# Altium footprint library WB_CHIP.PcbLib: 25 footprints (part 3 of 3)
Each footprint in its own frame and in the unit in brackets; x right, y up, seen from the top. Pads: shape width x height; smd on the part's side, far side on the other; paste and mask are expansions set on the pad; w line width, h text height; cw(c..) or ccw(c..) is an arc to the next point about the centre after c.
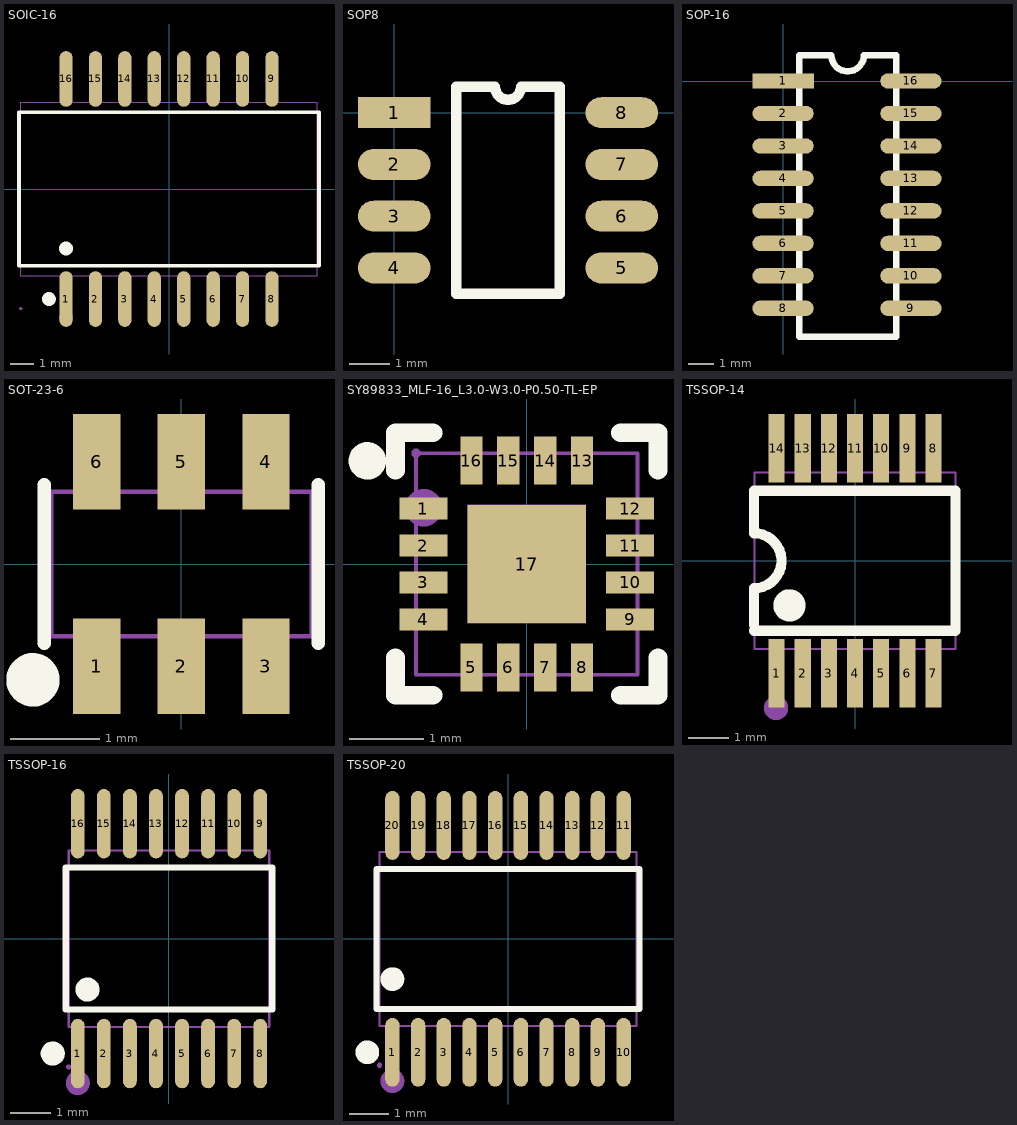
[diagram p2: the footprints below, top view; thin cyan lines are the x and y axes]

## SOIC-16 [mil]
pads (16):
  oval 22.6x94.51 smd: 1(-175,-187.02) 2(-125,-187.02) 3(-75,-187.02) 4(-25,-187.02) 5(25,-187.02) 6(75,-187.02) 7(125,-187.02) 8(175,-187.02) 9(175,187.02) 10(125,187.02) 11(75,187.02) 12(25,187.02) 13(-25,187.02) 14(-75,187.02) 15(-125,187.02) 16(-175,187.02)
Top Overlay:
  circle w11.81: c-204.11,-187.02 r5.91
  circle w11.81: c-175,-101.14 r5.91
  lines w6: -254.97,-130.76 254.97,-130.76 254.97,130.76 -254.97,130.76 -254.97,-130.76
Mechanical 6:
  circle w11.81: c-175,-219 r5.91
Mechanical 15:
  drawing of 37 lines, arcs and shapes, not listed

## SOP8 [mil]
pads (8):
  rect 70x30 smd: 1(0,0)
  oval 70x30 smd: 2(0,-50) 3(0,-100) 4(0,-150) 5(220,-150) 6(220,-100) 7(220,-50) 8(220,0)
Top Overlay:
  lines w10: 60,-175 160,-175 160,25 122.5,25 cw(c110,25) 97.5,25 60,25 60,-175

## SOP-16 [mm]
pads (16):
  rect 2.4x0.6 smd: 1(-0.009,0.008)
  oval 2.4x0.6 smd: 2(-0.009,-1.262) 3(-0.009,-2.532) 4(-0.009,-3.802) 5(-0.009,-5.072) 6(-0.009,-6.342) 7(-0.009,-7.612) 8(-0.009,-8.882) 9(4.991,-8.882) 10(4.991,-7.612) 11(4.991,-6.342) 12(4.991,-5.072) 13(4.991,-3.802) 14(4.991,-2.532) 15(4.991,-1.262) 16(4.991,0.008)
Top Overlay:
  lines w0.254: 0.626,-9.985 4.41,-9.985 4.41,1.015 3.151,1.015 cw(c2.516,1.015) 1.881,1.015 0.626,1.015 0.626,-9.985

## SOT-23-6 [mil]
pads (6):
  rect 20.95x42.2 smd: 1(-37.4,-45.24) 2(0,-45.24) 3(37.4,-45.24) 4(37.4,45.24) 5(0,45.24) 6(-37.4,45.24)
Top Overlay:
  circle w11.81: c-65.68,-51.24 r5.91
  lines w6: -60.6,-35.01 -60.6,35.01 ; 60.6,-35.01 60.6,35.01
Mechanical 15:
  region: -45.87,36.81 -28.94,36.81 -28.94,31.61 -45.87,31.61
  region: -45.87,36.42 -28.94,36.42 -28.94,55.12 -45.87,55.12
  region: -8.46,36.81 8.46,36.81 8.46,31.61 -8.46,31.61
  region: -8.46,36.42 8.46,36.42 8.46,55.12 -8.46,55.12
  region: 28.94,36.81 45.87,36.81 45.87,31.61 28.94,31.61
  region: 28.94,36.42 45.87,36.42 45.87,55.12 28.94,55.12
  region: 28.94,-31.61 45.87,-31.61 45.87,-36.81 28.94,-36.81
  region: 28.94,-36.42 45.87,-36.42 45.87,-55.12 28.94,-55.12
  region: -8.46,-31.61 8.46,-31.61 8.46,-36.81 -8.46,-36.81
  region: -8.46,-36.42 8.46,-36.42 8.46,-55.12 -8.46,-55.12
  region: -45.87,-31.61 -28.94,-31.61 -28.94,-36.81 -45.87,-36.81
  region: -45.87,-36.42 -28.94,-36.42 -28.94,-55.12 -45.87,-55.12
  region: -55.24,-55.12 -55.26,-54.15 -56.64,-52.81 -58.56,-52.81 -59.94,-54.16 -59.96,-55.12 -59.94,-56.08 -58.56,-57.43 -56.63,-57.43 -55.26,-56.08 -55.24,-55.12
  lines w2: -57.6,-32.01 -57.6,32.01 57.6,32.01 57.6,-32.01 -57.6,-32.01

## SY89833_MLF-16_L3.0-W3.0-P0.50-TL-EP [mm] "时钟缓冲器,驱动器"
pads (17):
  rect 0.65x0.3 smd: 1(-1.4,0.75) 2(-1.4,0.25) 3(-1.4,-0.25) 4(-1.4,-0.75) 9(1.4,-0.75) 10(1.4,-0.25) 11(1.4,0.25) 12(1.4,0.75)
  rect 0.3x0.65 smd: 5(-0.75,-1.4) 6(-0.25,-1.4) 7(0.25,-1.4) 8(0.75,-1.4) 13(0.75,1.4) 14(0.25,1.4) 15(-0.25,1.4) 16(-0.75,1.4)
  rect 1.6x1.6 smd: 17(0,0)
Top Overlay:
  circle w0.254: c-2.159,1.397 r0.127
  lines w0.254: -1.778,-1.27 -1.778,-1.778 -1.27,-1.778 ; -1.778,1.27 -1.778,1.778 -1.27,1.778 ; 1.27,-1.778 1.778,-1.778 1.778,-1.27 ; 1.27,1.778 1.778,1.778 1.778,1.27
Mechanical 6:
  circle w0.254: c-1.397,0.762 r0.127
Mechanical 15:
  region: -0.865,1.5 -0.635,1.5 -0.635,1.1 -0.865,1.1
  region: -0.365,1.5 -0.135,1.5 -0.135,1.1 -0.365,1.1
  region: 0.135,1.5 0.365,1.5 0.365,1.1 0.135,1.1
  region: 0.635,1.5 0.865,1.5 0.865,1.1 0.635,1.1
  region: 0.865,-1.5 0.635,-1.5 0.635,-1.1 0.865,-1.1
  region: 0.365,-1.5 0.135,-1.5 0.135,-1.1 0.365,-1.1
  region: -0.135,-1.5 -0.365,-1.5 -0.365,-1.1 -0.135,-1.1
  region: -0.635,-1.5 -0.865,-1.5 -0.865,-1.1 -0.635,-1.1
  region: 1.1,0.635 1.1,0.865 1.5,0.865 1.5,0.635
  region: 1.1,0.135 1.1,0.365 1.5,0.365 1.5,0.135
  region: 1.1,-0.365 1.1,-0.135 1.5,-0.135 1.5,-0.365
  region: 1.1,-0.865 1.1,-0.635 1.5,-0.635 1.5,-0.865
  region: -1.1,-0.635 -1.1,-0.865 -1.5,-0.865 -1.5,-0.635
  region: -1.1,-0.135 -1.1,-0.365 -1.5,-0.365 -1.5,-0.135
  region: -1.1,0.365 -1.1,0.135 -1.5,0.135 -1.5,0.365
  region: -1.1,0.865 -1.1,0.635 -1.5,0.635 -1.5,0.865
  region: -0.8,0.8 0.8,0.8 0.8,-0.8 -0.8,-0.8
  region: -1.44,1.5 -1.44,1.525 -1.475,1.56 -1.525,1.56 -1.56,1.525 -1.56,1.5 -1.56,1.475 -1.525,1.44 -1.475,1.44 -1.44,1.475 -1.44,1.5
  lines w0.051: -1.5,-1.5 1.5,-1.5 1.5,1.5 -1.5,1.5 -1.5,-1.5

## TSSOP-14 [mm]
pads (14):
  rect 0.4x1.7 smd: 1(-1.95,-2.8) 2(-1.3,-2.8) 3(-0.65,-2.8) 4(0,-2.8) 5(0.65,-2.8) 6(1.3,-2.8) 7(1.95,-2.8) 8(1.95,2.8) 9(1.3,2.8) 10(0.65,2.8) 11(0,2.8) 12(-0.65,2.8) 13(-1.3,2.8) 14(-1.95,2.8)
Top Overlay:
  circle w0.4: c-1.63,-1.11 r0.2
  lines w0.254: -2.515,-1.74 2.5,-1.74 2.5,1.743 -2.515,1.743 -2.515,0.686 cw(c-2.515,0) -2.515,-0.686 -2.515,-1.6
Mechanical 6:
  circle w0.3: c-1.964,-3.662 r0.15
Mechanical 15:
  drawing of 33 lines, arcs and shapes, not listed

## TSSOP-16 [mil]
pads (16):
  oval 13.5x68.17 smd: 1(-89.57,-112.83) 2(-63.98,-112.83) 3(-38.39,-112.83) 4(-12.79,-112.83) 5(12.8,-112.83) 6(38.39,-112.83) 7(63.98,-112.83) 8(89.57,-112.83) 9(89.57,112.83) 10(63.98,112.83) 11(38.39,112.83) 12(12.8,112.83) 13(-12.79,112.83) 14(-38.39,112.83) 15(-63.98,112.83) 16(-89.57,112.83)
Top Overlay:
  circle w11.81: c-114.13,-112.83 r5.91
  circle w11.81: c-80,-50 r5.91
  lines w6: -101.42,-69.73 101.42,-69.73 101.42,69.75 -101.42,69.75 -101.42,-69.73
Mechanical 6:
  circle w11.81: c-89.57,-141.72 r5.91
Mechanical 15:
  drawing of 37 lines, arcs and shapes, not listed

## TSSOP-20 [mil]
pads (20):
  oval 14.33x68.58 smd: 1(-115.16,-113.03) 2(-89.57,-113.03) 3(-63.98,-113.03) 4(-38.39,-113.03) 5(-12.79,-113.03) 6(12.8,-113.03) 7(38.39,-113.03) 8(63.98,-113.03) 9(89.57,-113.03) 10(115.16,-113.03) 11(115.16,113.03) 12(89.57,113.03) 13(63.98,113.03) 14(38.39,113.03) 15(12.8,113.03) 16(-12.79,113.03) 17(-38.39,113.03) 18(-63.98,113.03) 19(-89.57,113.03) 20(-115.16,113.03)
Top Overlay:
  circle w11.81: c-140.13,-113.03 r5.91
  circle w11.81: c-115.16,-40.12 r5.91
  lines w6: -130.95,-69.74 130.95,-69.74 130.95,69.74 -130.95,69.74 -130.95,-69.74
Mechanical 6:
  circle w11.81: c-115.16,-141.73 r5.91
Mechanical 15:
  drawing of 45 lines, arcs and shapes, not listed